# EAGLE library part AP7000 (library avr32)
Atmel AT32AP7000 AVR32 32-bit MCU/DSP. Vectored multiplier co-processor, 32 KB on-chip SRAM, 16 KB instruction and 16 KB data caches, MMU, DMA controller. Peripherals include a 16-bit stereo audio DAC, 2048x2048 pixel TFT/STN LCD controllers, 480 Mbps USB 2.0 with on chip transceivers (PHY) and, two 10/100 Ethernet MACs. Serial interfaces include RS232, USART, I2S, AC97, TWI/I2C, SPI, PS/2 and several synchronous serial modules (SSC) supporting most serial communication protocols.
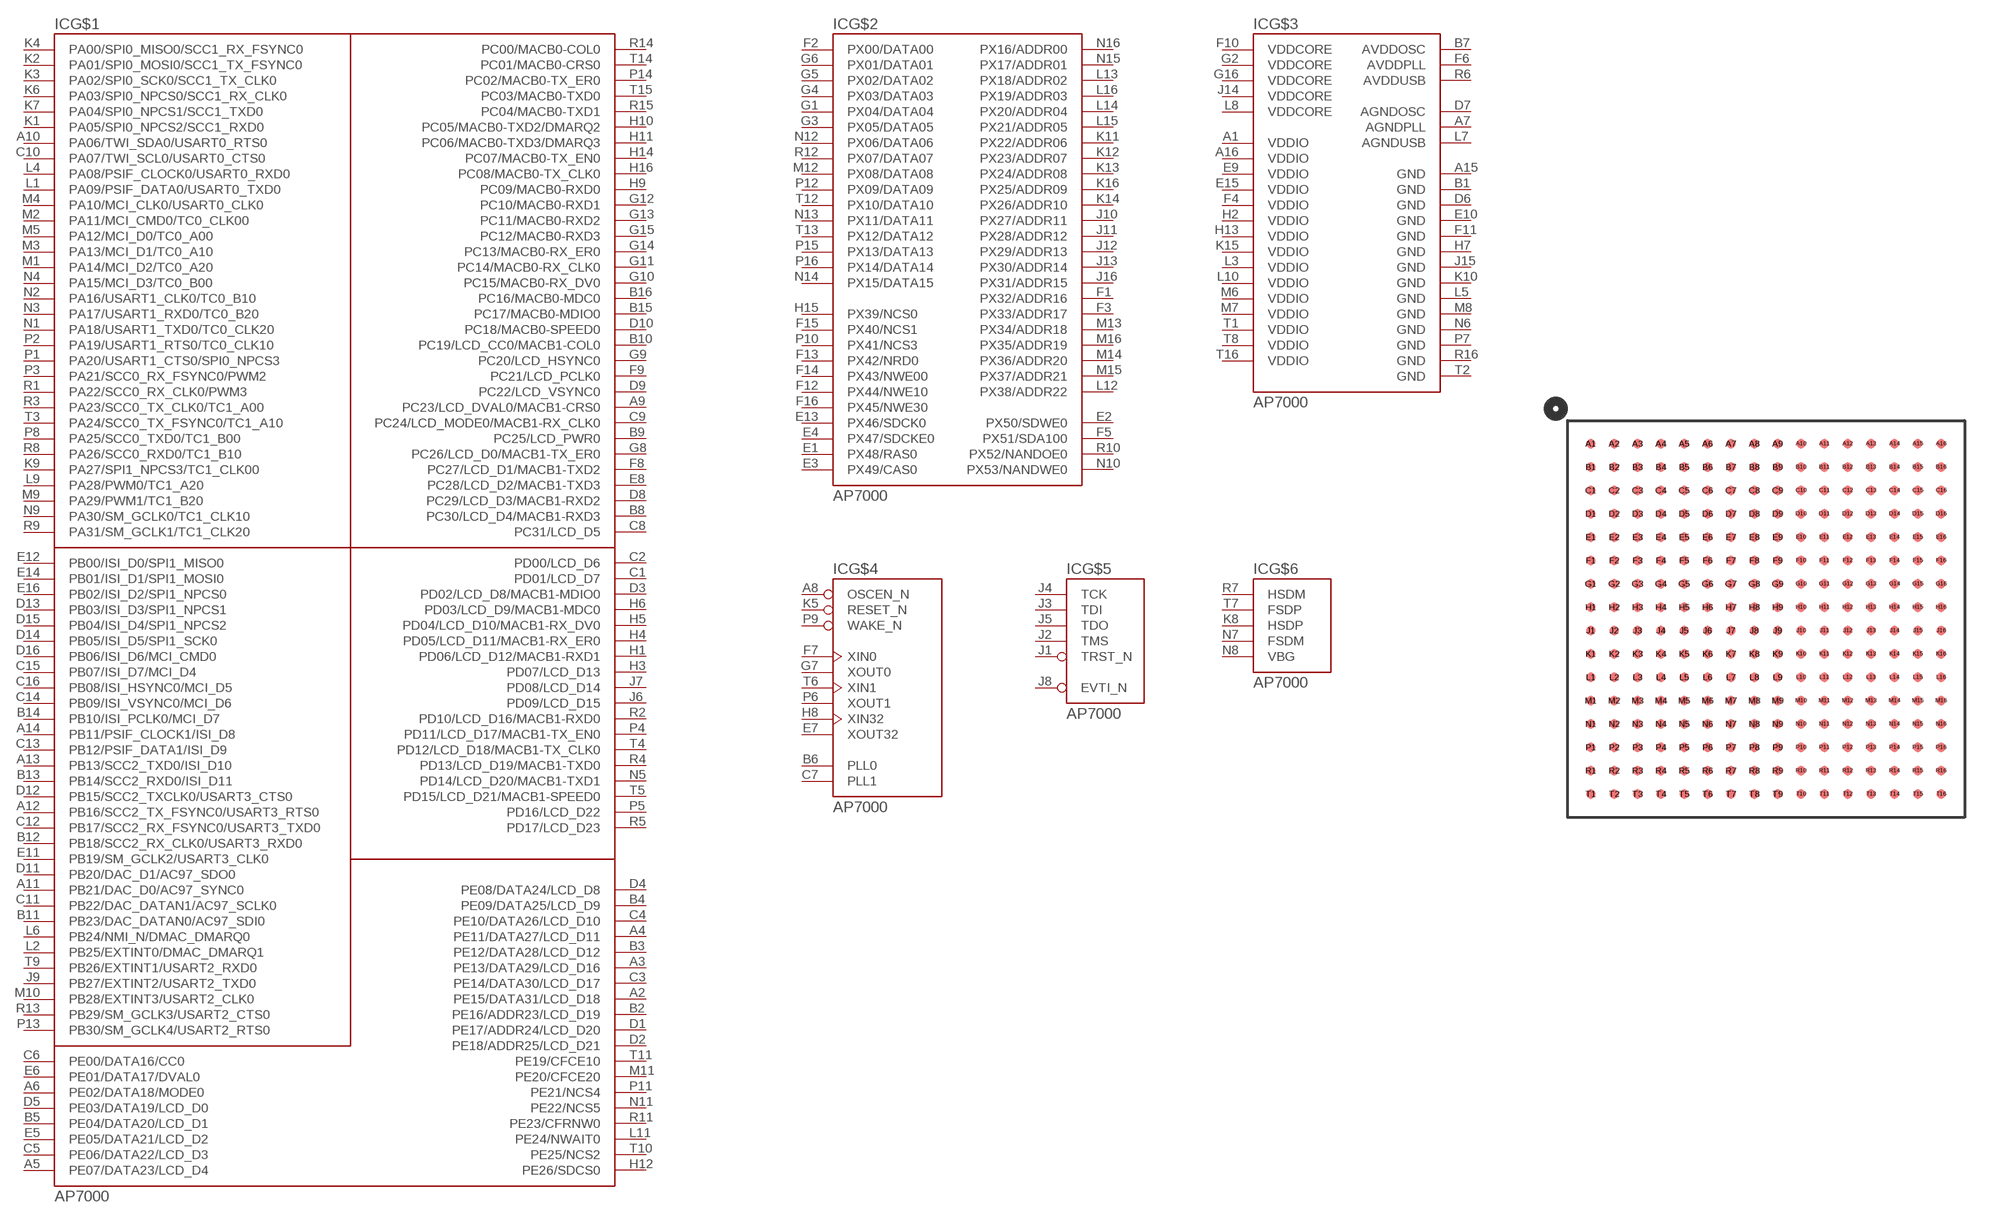
[diagram p0: symbol with the pads of BGA256_1; footprint BGA256_1]

Designator prefix IC; gates G$1=AP7000_IO G$2=AP7000_EBI G$3=AP7000_PWR G$4=AP7000_CLK G$5=AP7000_DEBUG G$6=AP7000_USB

## AP7000  [BGA256_1]
A1  G$3:VDDIO  pwr
A2  G$1:PE15/DATA31/LCD_D18
A3  G$1:PE13/DATA29/LCD_D16
A4  G$1:PE11/DATA27/LCD_D11
A5  G$1:PE07/DATA23/LCD_D4
A6  G$1:PE02/DATA18/MODE0
A7  G$3:AGNDPLL  pwr
A8  G$4:OSCEN_N  in
A9  G$1:PC23/LCD_DVAL0/MACB1-CRS0
A10  G$1:PA06/TWI_SDA0/USART0_RTS0
A11  G$1:PB21/DAC_D0/AC97_SYNC0
A12  G$1:PB16/SCC2_TX_FSYNC0/USART3_RTS0
A13  G$1:PB13/SCC2_TXD0/ISI_D10
A14  G$1:PB11/PSIF_CLOCK1/ISI_D8
A15  G$3:GND  pwr
A16  G$3:VDDIO  pwr
B1  G$3:GND  pwr
B2  G$1:PE16/ADDR23/LCD_D19
B3  G$1:PE12/DATA28/LCD_D12
B4  G$1:PE09/DATA25/LCD_D9
B5  G$1:PE04/DATA20/LCD_D1
B6  G$4:PLL0  pas
B7  G$3:AVDDOSC  pwr
B8  G$1:PC30/LCD_D4/MACB1-RXD3
B9  G$1:PC25/LCD_PWR0
B10  G$1:PC19/LCD_CC0/MACB1-COL0
B11  G$1:PB23/DAC_DATAN0/AC97_SDI0
B12  G$1:PB18/SCC2_RX_CLK0/USART3_RXD0
B13  G$1:PB14/SCC2_RXD0/ISI_D11
B14  G$1:PB10/ISI_PCLK0/MCI_D7
B15  G$1:PC17/MACB0-MDIO0
B16  G$1:PC16/MACB0-MDC0
C1  G$1:PD01/LCD_D7
C2  G$1:PD00/LCD_D6
C3  G$1:PE14/DATA30/LCD_D17
C4  G$1:PE10/DATA26/LCD_D10
C5  G$1:PE06/DATA22/LCD_D3
C6  G$1:PE00/DATA16/CC0
C7  G$4:PLL1  pas
C8  G$1:PC31/LCD_D5
C9  G$1:PC24/LCD_MODE0/MACB1-RX_CLK0
C10  G$1:PA07/TWI_SCL0/USART0_CTS0
C11  G$1:PB22/DAC_DATAN1/AC97_SCLK0
C12  G$1:PB17/SCC2_RX_FSYNC0/USART3_TXD0
C13  G$1:PB12/PSIF_DATA1/ISI_D9
C14  G$1:PB09/ISI_VSYNC0/MCI_D6
C15  G$1:PB07/ISI_D7/MCI_D4
C16  G$1:PB08/ISI_HSYNC0/MCI_D5
D1  G$1:PE17/ADDR24/LCD_D20
D2  G$1:PE18/ADDR25/LCD_D21
D3  G$1:PD02/LCD_D8/MACB1-MDIO0
D4  G$1:PE08/DATA24/LCD_D8
D5  G$1:PE03/DATA19/LCD_D0
D6  G$3:GND  pwr
D7  G$3:AGNDOSC  pwr
D8  G$1:PC29/LCD_D3/MACB1-RXD2
D9  G$1:PC22/LCD_VSYNC0
D10  G$1:PC18/MACB0-SPEED0
D11  G$1:PB20/DAC_D1/AC97_SDO0
D12  G$1:PB15/SCC2_TXCLK0/USART3_CTS0
D13  G$1:PB03/ISI_D3/SPI1_NPCS1
D14  G$1:PB05/ISI_D5/SPI1_SCK0
D15  G$1:PB04/ISI_D4/SPI1_NPCS2
D16  G$1:PB06/ISI_D6/MCI_CMD0
E1  G$2:PX48/RAS0
E2  G$2:PX50/SDWE0
E3  G$2:PX49/CAS0
E4  G$2:PX47/SDCKE0
E5  G$1:PE05/DATA21/LCD_D2
E6  G$1:PE01/DATA17/DVAL0
E7  G$4:XOUT32  pas
E8  G$1:PC28/LCD_D2/MACB1-TXD3
E9  G$3:VDDIO  pwr
E10  G$3:GND  pwr
E11  G$1:PB19/SM_GCLK2/USART3_CLK0
E12  G$1:PB00/ISI_D0/SPI1_MISO0
E13  G$2:PX46/SDCK0
E14  G$1:PB01/ISI_D1/SPI1_MOSI0
E15  G$3:VDDIO  pwr
E16  G$1:PB02/ISI_D2/SPI1_NPCS0
F1  G$2:PX32/ADDR16
F2  G$2:PX00/DATA00
F3  G$2:PX33/ADDR17
F4  G$3:VDDIO  pwr
F5  G$2:PX51/SDA100
F6  G$3:AVDDPLL  pwr
F7  G$4:XIN0  pas
F8  G$1:PC27/LCD_D1/MACB1-TXD2
F9  G$1:PC21/LCD_PCLK0
F10  G$3:VDDCORE  pwr
F11  G$3:GND  pwr
F12  G$2:PX44/NWE10
F13  G$2:PX42/NRD0
F14  G$2:PX43/NWE00
F15  G$2:PX40/NCS1
F16  G$2:PX45/NWE30
G1  G$2:PX04/DATA04
G2  G$3:VDDCORE  pwr
G3  G$2:PX05/DATA05
G4  G$2:PX03/DATA03
G5  G$2:PX02/DATA02
G6  G$2:PX01/DATA01
G7  G$4:XOUT0  pas
G8  G$1:PC26/LCD_D0/MACB1-TX_ER0
G9  G$1:PC20/LCD_HSYNC0
G10  G$1:PC15/MACB0-RX_DV0
G11  G$1:PC14/MACB0-RX_CLK0
G12  G$1:PC10/MACB0-RXD1
G13  G$1:PC11/MACB0-RXD2
G14  G$1:PC13/MACB0-RX_ER0
G15  G$1:PC12/MACB0-RXD3
G16  G$3:VDDCORE  pwr
H1  G$1:PD06/LCD_D12/MACB1-RXD1
H2  G$3:VDDIO  pwr
H3  G$1:PD07/LCD_D13
H4  G$1:PD05/LCD_D11/MACB1-RX_ER0
H5  G$1:PD04/LCD_D10/MACB1-RX_DV0
H6  G$1:PD03/LCD_D9/MACB1-MDC0
H7  G$3:GND  pwr
H8  G$4:XIN32  pas
H9  G$1:PC09/MACB0-RXD0
H10  G$1:PC05/MACB0-TXD2/DMARQ2
H11  G$1:PC06/MACB0-TXD3/DMARQ3
H12  G$1:PE26/SDCS0
H13  G$3:VDDIO  pwr
H14  G$1:PC07/MACB0-TX_EN0
H15  G$2:PX39/NCS0
H16  G$1:PC08/MACB0-TX_CLK0
J1  G$5:TRST_N  in
J2  G$5:TMS  in
J3  G$5:TDI  in
J4  G$5:TCK  in
J5  G$5:TDO  out
J6  G$1:PD09/LCD_D15
J7  G$1:PD08/LCD_D14
J8  G$5:EVTI_N  in
J9  G$1:PB27/EXTINT2/USART2_TXD0
J10  G$2:PX27/ADDR11
J11  G$2:PX28/ADDR12
J12  G$2:PX29/ADDR13
J13  G$2:PX30/ADDR14
J14  G$3:VDDCORE  pwr
J15  G$3:GND  pwr
J16  G$2:PX31/ADDR15
K1  G$1:PA05/SPI0_NPCS2/SCC1_RXD0
K2  G$1:PA01/SPI0_MOSI0/SCC1_TX_FSYNC0
K3  G$1:PA02/SPI0_SCK0/SCC1_TX_CLK0
K4  G$1:PA00/SPI0_MISO0/SCC1_RX_FSYNC0
K5  G$4:RESET_N  in
K6  G$1:PA03/SPI0_NPCS0/SCC1_RX_CLK0
K7  G$1:PA04/SPI0_NPCS1/SCC1_TXD0
K8  G$6:HSDP  pas
K9  G$1:PA27/SPI1_NPCS3/TC1_CLK00
K10  G$3:GND  pwr
K11  G$2:PX22/ADDR06
K12  G$2:PX23/ADDR07
K13  G$2:PX24/ADDR08
K14  G$2:PX26/ADDR10
K15  G$3:VDDIO  pwr
K16  G$2:PX25/ADDR09
L1  G$1:PA09/PSIF_DATA0/USART0_TXD0
L2  G$1:PB25/EXTINT0/DMAC_DMARQ1
L3  G$3:VDDIO  pwr
L4  G$1:PA08/PSIF_CLOCK0/USART0_RXD0
L5  G$3:GND  pwr
L6  G$1:PB24/NMI_N/DMAC_DMARQ0
L7  G$3:AGNDUSB  pwr
L8  G$3:VDDCORE  pwr
L9  G$1:PA28/PWM0/TC1_A20
L10  G$3:VDDIO  pwr
L11  G$1:PE24/NWAIT0
L12  G$2:PX38/ADDR22
L13  G$2:PX18/ADDR02
L14  G$2:PX20/ADDR04
L15  G$2:PX21/ADDR05
L16  G$2:PX19/ADDR03
M1  G$1:PA14/MCI_D2/TC0_A20
M2  G$1:PA11/MCI_CMD0/TC0_CLK00
M3  G$1:PA13/MCI_D1/TC0_A10
M4  G$1:PA10/MCI_CLK0/USART0_CLK0
M5  G$1:PA12/MCI_D0/TC0_A00
M6  G$3:VDDIO  pwr
M7  G$3:VDDIO  pwr
M8  G$3:GND  pwr
M9  G$1:PA29/PWM1/TC1_B20
M10  G$1:PB28/EXTINT3/USART2_CLK0
M11  G$1:PE20/CFCE20
M12  G$2:PX08/DATA08
M13  G$2:PX34/ADDR18
M14  G$2:PX36/ADDR20
M15  G$2:PX37/ADDR21
M16  G$2:PX35/ADDR19
N1  G$1:PA18/USART1_TXD0/TC0_CLK20
N2  G$1:PA16/USART1_CLK0/TC0_B10
N3  G$1:PA17/USART1_RXD0/TC0_B20
N4  G$1:PA15/MCI_D3/TC0_B00
N5  G$1:PD14/LCD_D20/MACB1-TXD1
N6  G$3:GND  pwr
N7  G$6:FSDM  pas
N8  G$6:VBG  pas
N9  G$1:PA30/SM_GCLK0/TC1_CLK10
N10  G$2:PX53/NANDWE0
N11  G$1:PE22/NCS5
N12  G$2:PX06/DATA06
N13  G$2:PX11/DATA11
N14  G$2:PX15/DATA15
N15  G$2:PX17/ADDR01
N16  G$2:PX16/ADDR00
P1  G$1:PA20/USART1_CTS0/SPI0_NPCS3
P2  G$1:PA19/USART1_RTS0/TC0_CLK10
P3  G$1:PA21/SCC0_RX_FSYNC0/PWM2
P4  G$1:PD11/LCD_D17/MACB1-TX_EN0
P5  G$1:PD16/LCD_D22
P6  G$4:XOUT1  pas
P7  G$3:GND  pwr
P8  G$1:PA25/SCC0_TXD0/TC1_B00
P9  G$4:WAKE_N  in
P10  G$2:PX41/NCS3
P11  G$1:PE21/NCS4
P12  G$2:PX09/DATA09
P13  G$1:PB30/SM_GCLK4/USART2_RTS0
P14  G$1:PC02/MACB0-TX_ER0
P15  G$2:PX13/DATA13
P16  G$2:PX14/DATA14
R1  G$1:PA22/SCC0_RX_CLK0/PWM3
R2  G$1:PD10/LCD_D16/MACB1-RXD0
R3  G$1:PA23/SCC0_TX_CLK0/TC1_A00
R4  G$1:PD13/LCD_D19/MACB1-TXD0
R5  G$1:PD17/LCD_D23
R6  G$3:AVDDUSB  pwr
R7  G$6:HSDM  pas
R8  G$1:PA26/SCC0_RXD0/TC1_B10
R9  G$1:PA31/SM_GCLK1/TC1_CLK20
R10  G$2:PX52/NANDOE0
R11  G$1:PE23/CFRNW0
R12  G$2:PX07/DATA07
R13  G$1:PB29/SM_GCLK3/USART2_CTS0
R14  G$1:PC00/MACB0-COL0
R15  G$1:PC04/MACB0-TXD1
R16  G$3:GND  pwr
T1  G$3:VDDIO  pwr
T2  G$3:GND  pwr
T3  G$1:PA24/SCC0_TX_FSYNC0/TC1_A10
T4  G$1:PD12/LCD_D18/MACB1-TX_CLK0
T5  G$1:PD15/LCD_D21/MACB1-SPEED0
T6  G$4:XIN1  pas
T7  G$6:FSDP  pas
T8  G$3:VDDIO  pwr
T9  G$1:PB26/EXTINT1/USART2_RXD0
T10  G$1:PE25/NCS2
T11  G$1:PE19/CFCE10
T12  G$2:PX10/DATA10
T13  G$2:PX12/DATA12
T14  G$1:PC01/MACB0-CRS0
T15  G$1:PC03/MACB0-TXD0
T16  G$3:VDDIO  pwr

## Footprint BGA256_1 (pad centres in mm)
256-pin 1mm pitch 17*17 mm CABGA package.
smd 0.4 x 0.4: A1 -7.5,7.5; A2 -6.5,7.5; A3 -5.5,7.5; A4 -4.5,7.5; A5 -3.5,7.5; A6 -2.5,7.5; A7 -1.5,7.5; A8 -0.5,7.5; A9 0.5,7.5; A10 1.5,7.5; A11 2.5,7.5; A12 3.5,7.5; A13 4.5,7.5; A14 5.5,7.5; A15 6.5,7.5; A16 7.5,7.5; B1 -7.5,6.5; B2 -6.5,6.5; B3 -5.5,6.5; B4 -4.5,6.5; B5 -3.5,6.5; B6 -2.5,6.5; B7 -1.5,6.5; B8 -0.5,6.5; B9 0.5,6.5; B10 1.5,6.5; B11 2.5,6.5; B12 3.5,6.5; B13 4.5,6.5; B14 5.5,6.5; B15 6.5,6.5; B16 7.5,6.5; C1 -7.5,5.5; C2 -6.5,5.5; C3 -5.5,5.5; C4 -4.5,5.5; C5 -3.5,5.5; C6 -2.5,5.5; C7 -1.5,5.5; C8 -0.5,5.5; C9 0.5,5.5; C10 1.5,5.5; C11 2.5,5.5; C12 3.5,5.5; C13 4.5,5.5; C14 5.5,5.5; C15 6.5,5.5; C16 7.5,5.5; D1 -7.5,4.5; D2 -6.5,4.5; D3 -5.5,4.5; D4 -4.5,4.5; D5 -3.5,4.5; D6 -2.5,4.5; D7 -1.5,4.5; D8 -0.5,4.5; D9 0.5,4.5; D10 1.5,4.5; D11 2.5,4.5; D12 3.5,4.5; D13 4.5,4.5; D14 5.5,4.5; D15 6.5,4.5; D16 7.5,4.5; E1 -7.5,3.5; E2 -6.5,3.5; E3 -5.5,3.5; E4 -4.5,3.5; E5 -3.5,3.5; E6 -2.5,3.5; E7 -1.5,3.5; E8 -0.5,3.5; E9 0.5,3.5; E10 1.5,3.5; E11 2.5,3.5; E12 3.5,3.5; E13 4.5,3.5; E14 5.5,3.5; E15 6.5,3.5; E16 7.5,3.5; F1 -7.5,2.5; F2 -6.5,2.5; F3 -5.5,2.5; F4 -4.5,2.5; F5 -3.5,2.5; F6 -2.5,2.5; F7 -1.5,2.5; F8 -0.5,2.5; F9 0.5,2.5; F10 1.5,2.5; F11 2.5,2.5; F12 3.5,2.5; F13 4.5,2.5; F14 5.5,2.5; F15 6.5,2.5; F16 7.5,2.5; G1 -7.5,1.5; G2 -6.5,1.5; G3 -5.5,1.5; G4 -4.5,1.5; G5 -3.5,1.5; G6 -2.5,1.5; G7 -1.5,1.5; G8 -0.5,1.5; G9 0.5,1.5; G10 1.5,1.5; G11 2.5,1.5; G12 3.5,1.5; G13 4.5,1.5; G14 5.5,1.5; G15 6.5,1.5; G16 7.5,1.5; H1 -7.5,0.5; H2 -6.5,0.5; H3 -5.5,0.5; H4 -4.5,0.5; H5 -3.5,0.5; H6 -2.5,0.5; H7 -1.5,0.5; H8 -0.5,0.5; H9 0.5,0.5; H10 1.5,0.5; H11 2.5,0.5; H12 3.5,0.5; H13 4.5,0.5; H14 5.5,0.5; H15 6.5,0.5; H16 7.5,0.5; J1 -7.5,-0.5; J2 -6.5,-0.5; J3 -5.5,-0.5; J4 -4.5,-0.5; J5 -3.5,-0.5; J6 -2.5,-0.5; J7 -1.5,-0.5; J8 -0.5,-0.5; J9 0.5,-0.5; J10 1.5,-0.5; J11 2.5,-0.5; J12 3.5,-0.5; J13 4.5,-0.5; J14 5.5,-0.5; J15 6.5,-0.5; J16 7.5,-0.5; K1 -7.5,-1.5; K2 -6.5,-1.5; K3 -5.5,-1.5; K4 -4.5,-1.5; K5 -3.5,-1.5; K6 -2.5,-1.5; K7 -1.5,-1.5; K8 -0.5,-1.5; K9 0.5,-1.5; K10 1.5,-1.5; K11 2.5,-1.5; K12 3.5,-1.5; K13 4.5,-1.5; K14 5.5,-1.5; K15 6.5,-1.5; K16 7.5,-1.5; L1 -7.5,-2.5; L2 -6.5,-2.5; L3 -5.5,-2.5; L4 -4.5,-2.5; L5 -3.5,-2.5; L6 -2.5,-2.5; L7 -1.5,-2.5; L8 -0.5,-2.5; L9 0.5,-2.5; L10 1.5,-2.5; L11 2.5,-2.5; L12 3.5,-2.5; L13 4.5,-2.5; L14 5.5,-2.5; L15 6.5,-2.5; L16 7.5,-2.5; M1 -7.5,-3.5; M2 -6.5,-3.5; M3 -5.5,-3.5; M4 -4.5,-3.5; M5 -3.5,-3.5; M6 -2.5,-3.5; M7 -1.5,-3.5; M8 -0.5,-3.5; M9 0.5,-3.5; M10 1.5,-3.5; M11 2.5,-3.5; M12 3.5,-3.5; M13 4.5,-3.5; M14 5.5,-3.5; M15 6.5,-3.5; M16 7.5,-3.5; N1 -7.5,-4.5; N2 -6.5,-4.5; N3 -5.5,-4.5; N4 -4.5,-4.5; N5 -3.5,-4.5; N6 -2.5,-4.5; N7 -1.5,-4.5; N8 -0.5,-4.5; N9 0.5,-4.5; N10 1.5,-4.5; N11 2.5,-4.5; N12 3.5,-4.5; N13 4.5,-4.5; N14 5.5,-4.5; N15 6.5,-4.5; N16 7.5,-4.5; P1 -7.5,-5.5; P2 -6.5,-5.5; P3 -5.5,-5.5; P4 -4.5,-5.5; P5 -3.5,-5.5; P6 -2.5,-5.5; P7 -1.5,-5.5; P8 -0.5,-5.5; P9 0.5,-5.5; P10 1.5,-5.5; P11 2.5,-5.5; P12 3.5,-5.5; P13 4.5,-5.5; P14 5.5,-5.5; P15 6.5,-5.5; P16 7.5,-5.5; R1 -7.5,-6.5; R2 -6.5,-6.5; R3 -5.5,-6.5; R4 -4.5,-6.5; R5 -3.5,-6.5; R6 -2.5,-6.5; R7 -1.5,-6.5; R8 -0.5,-6.5; R9 0.5,-6.5; R10 1.5,-6.5; R11 2.5,-6.5; R12 3.5,-6.5; R13 4.5,-6.5; R14 5.5,-6.5; R15 6.5,-6.5; R16 7.5,-6.5; T1 -7.5,-7.5; T2 -6.5,-7.5; T3 -5.5,-7.5; T4 -4.5,-7.5; T5 -3.5,-7.5; T6 -2.5,-7.5; T7 -1.5,-7.5; T8 -0.5,-7.5; T9 0.5,-7.5; T10 1.5,-7.5; T11 2.5,-7.5; T12 3.5,-7.5; T13 4.5,-7.5; T14 5.5,-7.5; T15 6.5,-7.5; T16 7.5,-7.5